# EAGLE library part LCMXO2-640HC-4TG100C (library bmowdisk1)
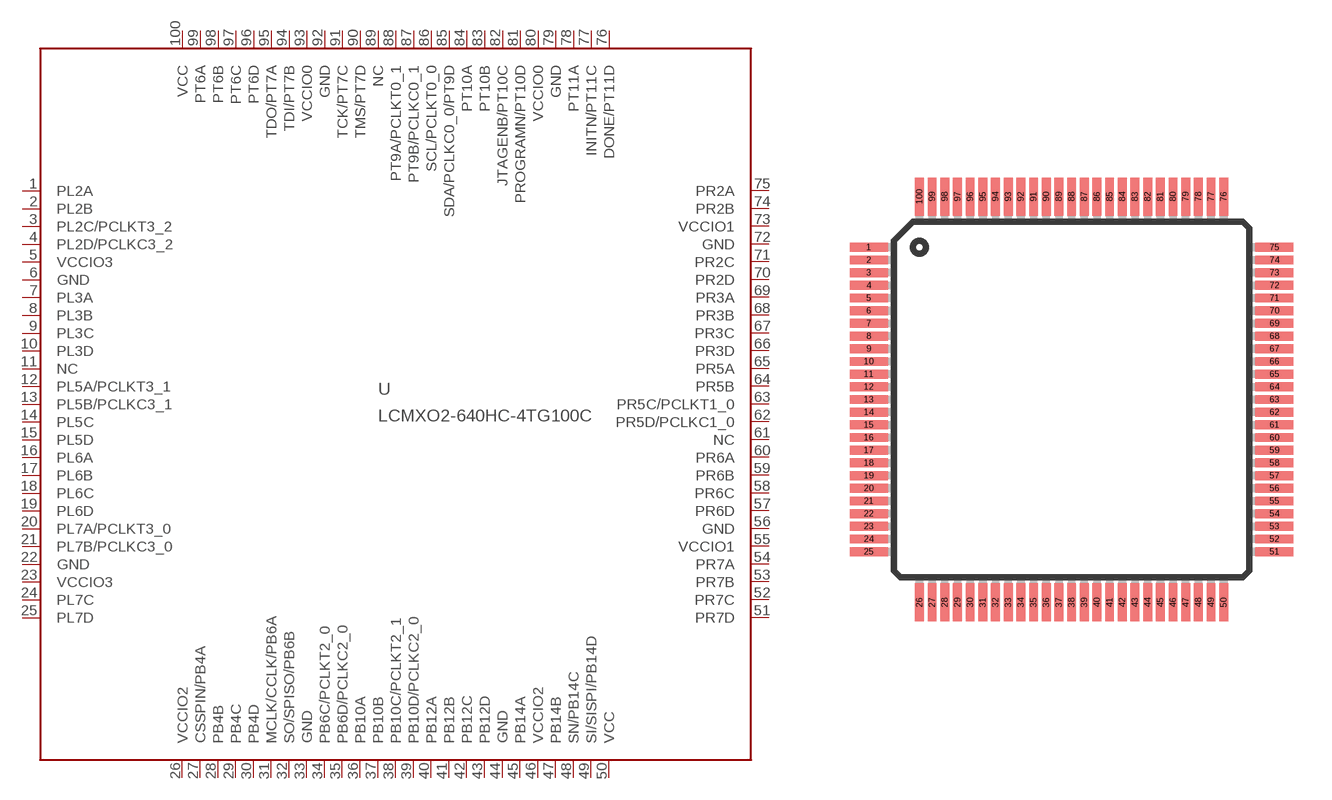
[diagram p0: symbol with the pads of TQFP100; footprint TQFP100]

Designator prefix -

## LCMXO2-640HC-4TG100C  [TQFP100]
1  PL2A
2  PL2B
3  PL2C/PCLKT3_2
4  PL2D/PCLKC3_2
5  VCCIO3  pwr
6  GND  pwr
7  PL3A
8  PL3B
9  PL3C
10  PL3D
11  NC  nc
12  PL5A/PCLKT3_1
13  PL5B/PCLKC3_1
14  PL5C
15  PL5D
16  PL6A
17  PL6B
18  PL6C
19  PL6D
20  PL7A/PCLKT3_0
21  PL7B/PCLKC3_0
22  GND  pwr
23  VCCIO3  pwr
24  PL7C
25  PL7D
26  VCCIO2  pwr
27  CSSPIN/PB4A
28  PB4B
29  PB4C
30  PB4D
31  MCLK/CCLK/PB6A
32  SO/SPISO/PB6B
33  GND  pwr
34  PB6C/PCLKT2_0
35  PB6D/PCLKC2_0
36  PB10A
37  PB10B
38  PB10C/PCLKT2_1
39  PB10D/PCLKC2_0
40  PB12A
41  PB12B
42  PB12C
43  PB12D
44  GND  pwr
45  PB14A
46  VCCIO2  pwr
47  PB14B
48  SN/PB14C
49  SI/SISPI/PB14D
50  VCC  pwr
51  PR7D
52  PR7C
53  PR7B
54  PR7A
55  VCCIO1  pwr
56  GND  pwr
57  PR6D
58  PR6C
59  PR6B  pwr
60  PR6A  pwr
61  NC  nc
62  PR5D/PCLKC1_0
63  PR5C/PCLKT1_0
64  PR5B
65  PR5A
66  PR3D
67  PR3C
68  PR3B
69  PR3A
70  PR2D
71  PR2C
72  GND  pwr
73  VCCIO1  pwr
74  PR2B
75  PR2A
76  DONE/PT11D
77  INITN/PT11C
78  PT11A
79  GND  pwr
80  VCCIO0  pwr
81  PROGRAMN/PT10D
82  JTAGENB/PT10C
83  PT10B
84  PT10A
85  SDA/PCLKC0_0/PT9D
86  SCL/PCLKT0_0
87  PT9B/PCLKC0_1
88  PT9A/PCLKT0_1
89  NC  nc
90  TMS/PT7D
91  TCK/PT7C
92  GND  pwr
93  VCCIO0  pwr
94  TDI/PT7B
95  TDO/PT7A
96  PT6D
97  PT6C
98  PT6B
99  PT6A
100  VCC  pwr

## Footprint TQFP100 (pad centres in mm)
smd 1.5 x 0.35: 1 -8,6; 2 -8,5.5; 3 -8,5; 4 -8,4.5; 5 -8,4; 6 -8,3.5; 7 -8,3; 8 -8,2.5; 9 -8,2; 10 -8,1.5; 11 -8,1; 12 -8,0.5; 13 -8,0; 14 -8,-0.5; 15 -8,-1; 16 -8,-1.5; 17 -8,-2; 18 -8,-2.5; 19 -8,-3; 20 -8,-3.5; 21 -8,-4; 22 -8,-4.5; 23 -8,-5; 24 -8,-5.5; 25 -8,-6; 51 8,-6; 52 8,-5.5; 53 8,-5; 54 8,-4.5; 55 8,-4; 56 8,-3.5; 57 8,-3; 58 8,-2.5; 59 8,-2; 60 8,-1.5; 61 8,-1; 62 8,-0.5; 63 8,0; 64 8,0.5; 65 8,1; 66 8,1.5; 67 8,2; 68 8,2.5; 69 8,3; 70 8,3.5; 71 8,4; 72 8,4.5; 73 8,5; 74 8,5.5; 75 8,6
smd 0.35 x 1.5: 26 -6,-8; 27 -5.5,-8; 28 -5,-8; 29 -4.5,-8; 30 -4,-8; 31 -3.5,-8; 32 -3,-8; 33 -2.5,-8; 34 -2,-8; 35 -1.5,-8; 36 -1,-8; 37 -0.5,-8; 38 0,-8; 39 0.5,-8; 40 1,-8; 41 1.5,-8; 42 2,-8; 43 2.5,-8; 44 3,-8; 45 3.5,-8; 46 4,-8; 47 4.5,-8; 48 5,-8; 49 5.5,-8; 50 6,-8; 76 6,8; 77 5.5,8; 78 5,8; 79 4.5,8; 80 4,8; 81 3.5,8; 82 3,8; 83 2.5,8; 84 2,8; 85 1.5,8; 86 1,8; 87 0.5,8; 88 0,8; 89 -0.5,8; 90 -1,8; 91 -1.5,8; 92 -2,8; 93 -2.5,8; 94 -3,8; 95 -3.5,8; 96 -4,8; 97 -4.5,8; 98 -5,8; 99 -5.5,8; 100 -6,8